# Altium integrated library Infineon_Power_Integrated_Power_Stages.IntLib: 3 symbols
Pins are listed as number, name and electrical type; pins without a type are passive.

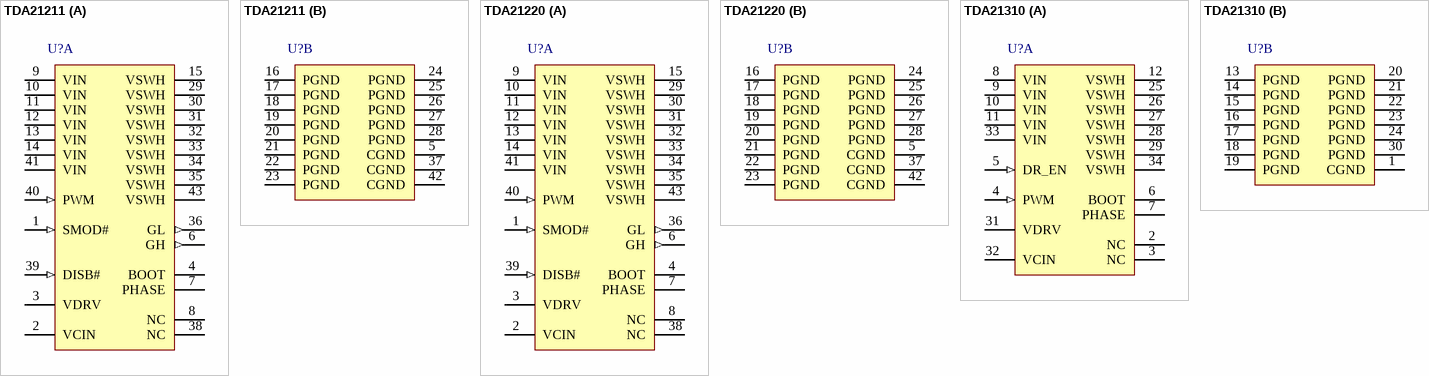
[diagram p0: symbols TDA21211 to TDA21310]

## TDA21211
designator U?
High-Performance DrMOS, PG-IQFN-40-1, Reel, Green; Manufacturer: Infineon; PartNumber: TDA21211; Green: TRUE; PackageVersion: Rev. 02, 04/2009; PackageReference: PG-IQFN-40-1; PackageDescription: 40-Pin Plastic (Green) Quad Flat Non Leaded Package, 6 x 6 mm Body, 0.5 mm Pitch; Supplier 1: Digi-Key; Supplier Part Number 1: TDA21211-ND; Halogen-free: TRUE; Packing: Reel; Mounting Technology: Surface Mount; ComponentLink1Description: Manufacturer URL; ComponentLink1URL: http://www.infineon.com/; ComponentLink2Description: Datasheet; ComponentLink2URL: http://www.infineon.com/dgdl/PB-TDA21211.pdf?folderId=db3a30431a5c32f2011a77f9c03e6cb4&fileId=db3a304323b87bc201240b3c2da847b1; ComponentLink3Description: Package Specification; ComponentLink3URL: http://www.infineon.com/dgdl/TDA21220_DrMOS_V1.0_DS_Rev1.9.pdf?folderId=db3a3043240e85fe0124160b44183655&fileId=db3a304328c6bd5c0128d3df67f200b0
footprint INF-PG-IQFN-40-1_V (QFN, 40-Leads, Body 6x6mm, Pitch 0.5mm)
part A pins: 1 SMOD# (in) "Low side gate disable pin", 2 VCIN (power) "Logic supply voltage", 3 VDRV (power) "FET gate supply voltage", 4 BOOT "Bootstrap voltage pin", 6 GH (out) "High side gate signal Monitoring of High Side MOSFET gate", 7 PHASE "Switch node output Internally connected to VSWH pin", 8 NC "No connect", 9 VIN (power) "Input voltage Supply of the drain of the High Side MOSFET", 10 VIN (power) "Input voltage Supply of the drain of the High Side MOSFET", 11 VIN (power) "Input voltage Supply of the drain of the High Side MOSFET", 12 VIN (power) "Input voltage Supply of the drain of the High Side MOSFET", 13 VIN (power) "Input voltage Supply of the drain of the High Side MOSFET", 14 VIN (power) "Input voltage Supply of the drain of the High Side MOSFET", 15 VSWH (power) "Switch node output High current output switching node", 29 VSWH (power) "Switch node output High current output switching node", 30 VSWH (power) "Switch node output High current output switching node", 31 VSWH (power) "Switch node output High current output switching node", 32 VSWH (power) "Switch node output High current output switching node", 33 VSWH (power) "Switch node output High current output switching node", 34 VSWH (power) "Switch node output High current output switching node", 35 VSWH (power) "Switch node output High current output switching node", 36 GL (out) "Low side gate signal Monitoring of Low Side MOSFET gate", 38 NC "No connect", 39 DISB# (in) "Disable signal (active low) Pull to GND to disable the IC.", 40 PWM (in) "PWM drive logic input", 41 VIN (power) "Input voltage Supply of the drain of the High Side MOSFET", 43 VSWH (power) "Switch node output High current output switching node"
part B pins: 5 CGND (power) "Control signal ground Should be connected to PGND externally", 16 PGND (power) "Power ground All these pins must be connected to the power GND  plane through multiple low inductance vias.", 17 PGND (power) "Power ground All these pins must be connected to the power GND  plane through multiple low inductance vias.", 18 PGND (power) "Power ground All these pins must be connected to the power GND  plane through multiple low inductance vias.", 19 PGND (power) "Power ground All these pins must be connected to the power GND  plane through multiple low inductance vias.", 20 PGND (power) "Power ground All these pins must be connected to the power GND  plane through multiple low inductance vias.", 21 PGND (power) "Power ground All these pins must be connected to the power GND  plane through multiple low inductance vias.", 22 PGND (power) "Power ground All these pins must be connected to the power GND  plane through multiple low inductance vias.", 23 PGND (power) "Power ground All these pins must be connected to the power GND  plane through multiple low inductance vias.", 24 PGND (power) "Power ground All these pins must be connected to the power GND  plane through multiple low inductance vias.", 25 PGND (power) "Power ground All these pins must be connected to the power GND  plane through multiple low inductance vias.", 26 PGND (power) "Power ground All these pins must be connected to the power GND  plane through multiple low inductance vias.", 27 PGND (power) "Power ground All these pins must be connected to the power GND  plane through multiple low inductance vias.", 28 PGND (power) "Power ground All these pins must be connected to the power GND  plane through multiple low inductance vias.", 37 CGND (power) "Control signal ground Should be connected to PGND externally", 42 CGND (power) "Control signal ground Should be connected to PGND externally"

## TDA21220
designator U?
High-Performance DrMOS, -25 to 125 degC, PG-IQFN-40-1, Reel, Green; Manufacturer: Infineon; PartNumber: TDA21220; fSW (max): 1.2 MHz; Green: TRUE; Rjs: 5 K/W; RJt: 20 K/W; Vin (max): 16 V; DatasheetVersion: Rev. 1.9; PackageVersion: Rev. 02, 04/2009; PackageReference: PG-IQFN-40-1; PackageDescription: 40-Pin Plastic (Green) Quad Flat Non Leaded Package, 6 x 6 mm Body, 0.5 mm Pitch; Supplier 1: Digi-Key; Supplier Part Number 1: TDA21220-ND; Halogen-free: TRUE; Packing: Reel; Mounting Technology: Surface Mount; ComponentLink1Description: Manufacturer URL; ComponentLink1URL: http://www.infineon.com/; ComponentLink2Description: Datasheet; ComponentLink2URL: http://www.infineon.com/dgdl/TDA21220_DrMOS_V1.0_DS_Rev1.9.pdf?folderId=db3a3043240e85fe0124160b44183655&fileId=db3a304328c6bd5c0128d3df67f200b0; ComponentLink3Description: Package Specification; ComponentLink3URL: http://www.infineon.com/dgdl/TDA21220_DrMOS_V1.0_DS_Rev1.9.pdf?folderId=db3a3043240e85fe0124160b44183655&fileId=db3a304328c6bd5c0128d3df67f200b0
footprint INF-PG-IQFN-40-1_V (QFN, 40-Leads, Body 6x6mm, Pitch 0.5mm)
part A pins: 1 SMOD# (in) "High and Low Side gate disable When SMOD# is “low” the GL is “off”", 2 VCIN (power) "Logic supply voltage 5 V bias voltage for the internal logic", 3 VDRV (power) "FET gate supply voltage High and Low Side gate drive 5 V supply", 4 BOOT "Bootstrap voltage pin Connect to BOOT capacitor", 6 GH (out) "High side gate signal Monitoring of High Side MOSFET gate", 7 PHASE "Switch node output Internally connected to VSWH pin, Connect to BOOT capacitor", 8 NC "No internal connection Leave pin floating or tie to GND.", 9 VIN (power) "Input voltage Supply of  the drain of the High Side MOSFET", 10 VIN (power) "Input voltage Supply of  the drain of the High Side MOSFET", 11 VIN (power) "Input voltage Supply of  the drain of the High Side MOSFET", 12 VIN (power) "Input voltage Supply of  the drain of the High Side MOSFET", 13 VIN (power) "Input voltage Supply of  the drain of the High Side MOSFET", 14 VIN (power) "Input voltage Supply of  the drain of the High Side MOSFET", 15 VSWH (power) "Switch node output High current output switching node", 29 VSWH (power) "Switch node output High current output switching node", 30 VSWH (power) "Switch node output High current output switching node", 31 VSWH (power) "Switch node output High current output switching node", 32 VSWH (power) "Switch node output High current output switching node", 33 VSWH (power) "Switch node output High current output switching node", 34 VSWH (power) "Switch node output High current output switching node", 35 VSWH (power) "Switch node output High current output switching node", 36 GL (out) "Low side gate signal Monitoring of Low Side MOSFET gate", 38 NC "No internal connection Leave pin floating or tie to GND.", 39 DISB# (in) "Disable signal (active low) Pull to GND to disable the IC.", 40 PWM (in) "PWM drive logic input The three state PWM input is compatible with 3.3 V.", 41 VIN (power) "Input voltage Supply of  the drain of the High Side MOSFET", 43 VSWH (power) "Switch node output High current output switching node"
part B pins: 5 CGND (power) "Control signal ground Should be connected to PGND externally", 16 PGND (power) "Power ground All these pins must be connected to the power GND plane through multiple low inductance vias.", 17 PGND (power) "Power ground All these pins must be connected to the power GND plane through multiple low inductance vias.", 18 PGND (power) "Power ground All these pins must be connected to the power GND plane through multiple low inductance vias.", 19 PGND (power) "Power ground All these pins must be connected to the power GND plane through multiple low inductance vias.", 20 PGND (power) "Power ground All these pins must be connected to the power GND plane through multiple low inductance vias.", 21 PGND (power) "Power ground All these pins must be connected to the power GND plane through multiple low inductance vias.", 22 PGND (power) "Power ground All these pins must be connected to the power GND plane through multiple low inductance vias.", 23 PGND (power) "Power ground All these pins must be connected to the power GND plane through multiple low inductance vias.", 24 PGND (power) "Power ground All these pins must be connected to the power GND plane through multiple low inductance vias.", 25 PGND (power) "Power ground All these pins must be connected to the power GND plane through multiple low inductance vias.", 26 PGND (power) "Power ground All these pins must be connected to the power GND plane through multiple low inductance vias.", 27 PGND (power) "Power ground All these pins must be connected to the power GND plane through multiple low inductance vias.", 28 PGND (power) "Power ground All these pins must be connected to the power GND plane through multiple low inductance vias.", 37 CGND (power) "Control signal ground Should be connected to PGND externally", 42 CGND (power) "Control signal ground Should be connected to PGND externally"

## TDA21310
designator U?
High-Performance Drblade, -25 to 125 degC, LG-UIQFN-32-2, Reel, Green; Manufacturer: Infineon; PartNumber: TDA21310; Green: TRUE; DatasheetVersion: Rev. 1.6; PackageVersion: Rev. 01, 02/2013; PackageReference: LG-UIQFN-32-2; PackageDescription: 32-Pin Plastic (Green) Quad Flat Non Leaded Package, 5.1 x 5.1 mm Body, 0.5 mm Pitch; Halogen-free: TRUE; Packing: Reel; Mounting Technology: Surface Mount; ComponentLink1Description: Manufacturer URL; ComponentLink1URL: http://www.infineon.com/; ComponentLink2Description: Datasheet; ComponentLink2URL: http://www.infineon.com/dgdl/TDA21310+-+v1+6.pdf?folderId=db3a30433d68e984013d6d6246981c09&fileId=db3a30433d68e984013d6d63a88c1c0a; ComponentLink3Description: Package Specification; ComponentLink3URL: http://www.infineon.com/dgdl/TDA21310+-+v1+6.pdf?folderId=db3a30433d68e984013d6d6246981c09&fileId=db3a30433d68e984013d6d63a88c1c0a
footprint INF-LG-UIQFN-32-2_V (QFN, 32-Leads, Body 5.05x5.05mm, Pitch 0.5mm)
part A pins: 2 NC "No internal connection Leave pin floating or tie to GND.", 3 NC "No internal connection Leave pin floating or tie to GND.", 4 PWM (in) "PWM drive logic input The tri-state PWM input is compatible with 3.3 V.", 5 DR_EN (in) "Enable signal (active high) Connect to GND to disable the IC.", 6 BOOT "Bootstrap voltage pin Connect to BOOT capacitor", 7 PHASE "Switch node (reference for Boot voltage) internally connected to VSWH pin, connect to BOOT capacitor", 8 VIN (power) "Input voltage Supply of  the drain of the high side MOSFET", 9 VIN (power) "Input voltage Supply of  the drain of the high side MOSFET", 10 VIN (power) "Input voltage Supply of  the drain of the high side MOSFET", 11 VIN (power) "Input voltage Supply of  the drain of the high side MOSFET", 12 VSWH (power) "Switch node output High current output switching node", 25 VSWH (power) "Switch node output High current output switching node", 26 VSWH (power) "Switch node output High current output switching node", 27 VSWH (power) "Switch node output High current output switching node", 28 VSWH (power) "Switch node output High current output switching node", 29 VSWH (power) "Switch node output High current output switching node", 31 VDRV (power) "FET gate supply voltage High and low side MOSFETs gate drive supply", 32 VCIN (power) "Logic supply voltage 5 V bias voltage for the internal logic", 33 VIN (power) "Input voltage Supply of  the drain of the high side MOSFET", 34 VSWH (power) "Switch node output High current output switching node"
part B pins: 1 CGND (power) "Control signal ground Should be connected to PGND externally", 13 PGND (power) "Power ground All these pins must be connected to the power GND plane through multiple low inductance vias.", 14 PGND (power) "Power ground All these pins must be connected to the power GND plane through multiple low inductance vias.", 15 PGND (power) "Power ground All these pins must be connected to the power GND plane through multiple low inductance vias.", 16 PGND (power) "Power ground All these pins must be connected to the power GND plane through multiple low inductance vias.", 17 PGND (power) "Power ground All these pins must be connected to the power GND plane through multiple low inductance vias.", 18 PGND (power) "Power ground All these pins must be connected to the power GND plane through multiple low inductance vias.", 19 PGND (power) "Power ground All these pins must be connected to the power GND plane through multiple low inductance vias.", 20 PGND (power) "Power ground All these pins must be connected to the power GND plane through multiple low inductance vias.", 21 PGND (power) "Power ground All these pins must be connected to the power GND plane through multiple low inductance vias.", 22 PGND (power) "Power ground All these pins must be connected to the power GND plane through multiple low inductance vias.", 23 PGND (power) "Power ground All these pins must be connected to the power GND plane through multiple low inductance vias.", 24 PGND (power) "Power ground All these pins must be connected to the power GND plane through multiple low inductance vias.", 30 PGND (power) "Power ground All these pins must be connected to the power GND plane through multiple low inductance vias."